# EAGLE library part 741-8 (library resistor-array)
CTS 741 Series 8 Terminations, 4 Resistors
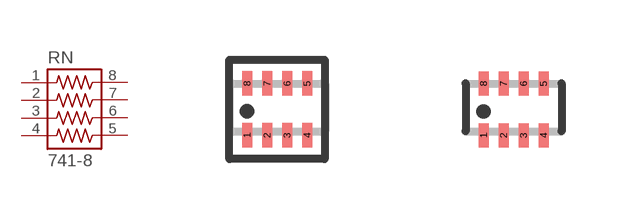
[diagram p7: symbol with the pads of 741-8; footprints 741-8, 741-8NS]

Designator prefix RN

## 741-8  [741-8]
1  1  pas
2  2  pas
3  3  pas
4  4  pas
5  5  pas
6  6  pas
7  7  pas
8  8  pas

## 741-8NS  [741-8NS]
Pads as for 741-8

## Footprint 741-8 (pad centres in mm)
CTS 741 Series 8 Terminations, 4 Resistors
smd 0.25 x 0.61: 1 -0.75,-0.65; 2 -0.25,-0.65; 3 0.25,-0.65; 4 0.75,-0.65; 5 0.75,0.65; 6 0.25,0.65; 7 -0.25,0.65; 8 -0.75,0.65

## Footprint 741-8NS (pad centres in mm)
CTS 741 Series 8 Terminations, 4 Resistors
smd 0.25 x 0.61: 1 -0.75,-0.65; 2 -0.25,-0.65; 3 0.25,-0.65; 4 0.75,-0.65; 5 0.75,0.65; 6 0.25,0.65; 7 -0.25,0.65; 8 -0.75,0.65